# Altium footprint library Jumper.PcbLib: 2 footprints
Each footprint in its own frame and in the unit in brackets; x right, y up, seen from the top. Pads: shape width x height; smd on the part's side, far side on the other; paste and mask are expansions set on the pad; w line width, h text height; cw(c..) or ccw(c..) is an arc to the next point about the centre after c.
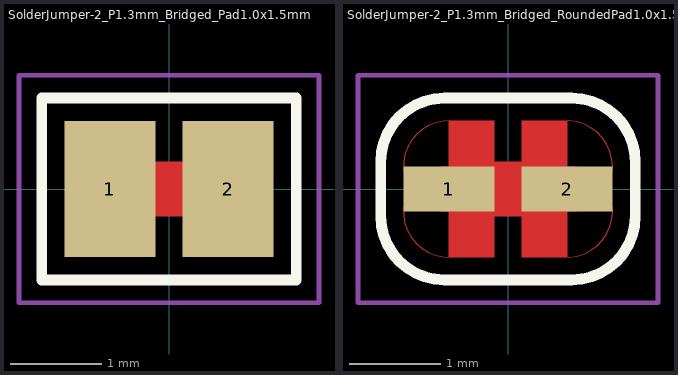
[diagram p0: the footprints below, top view; thin cyan lines are the x and y axes]

## SolderJumper-2_P1.3mm_Bridged_Pad1.0x1.5mm [mm]
pads (2):
  rect 1x1.5 smd: 1(-0.65,0) 2(0.65,0)
F.Cu:
  region: 0.25,-0.3 -0.25,-0.3 -0.25,0.3 0.25,0.3
F.SilkS:
  lines w0.12: -1.4,-1 -1.4,1 1.4,1 1.4,-1 -1.4,-1
F.CrtYd:
  lines w0.05: -1.65,-1.25 -1.65,1.25 1.65,1.25 1.65,-1.25 -1.65,-1.25

## SolderJumper-2_P1.3mm_Bridged_RoundedPad1.0x1.5mm [mm]
pads (2):
  rect 1x0.5 smd: 1(-0.65,0) 2(0.65,0)
F.Cu:
  region: 0.25,-0.3 -0.25,-0.3 -0.25,0.3 0.25,0.3
  circle w0: c0.65,-0.25 r0.5
  circle w0: c0.65,0.25 r0.5
  region: 0.65,-0.75 0.15,-0.75 0.15,0.75 0.65,0.75
  circle w0: c-0.65,-0.25 r0.5
  circle w0: c-0.65,0.25 r0.5
  region: -0.15,-0.75 -0.65,-0.75 -0.65,0.75 -0.15,0.75
F.SilkS:
  lines w0.12: -1.4,-0.3 ccw(c-0.7,-0.3) -0.7,-1 0.7,-1 ccw(c0.7,-0.3) 1.4,-0.3 1.4,0.3 ccw(c0.7,0.3) 0.7,1 -0.7,1 ccw(c-0.7,0.3) -1.4,0.3 -1.4,-0.3
F.Mask:
  circle w0: c0.65,-0.25 r0.5
  circle w0: c0.65,0.25 r0.5
  region: 0.65,-0.75 0.15,-0.75 0.15,0.75 0.65,0.75
  circle w0: c-0.65,-0.25 r0.5
  circle w0: c-0.65,0.25 r0.5
  region: -0.15,-0.75 -0.65,-0.75 -0.65,0.75 -0.15,0.75
F.CrtYd:
  lines w0.05: -1.65,-1.25 -1.65,1.25 1.65,1.25 1.65,-1.25 -1.65,-1.25